# Altium footprint library chip.PcbLib: 31 footprints (part 2 of 2)
Each footprint in its own frame and in the unit in brackets; x right, y up, seen from the top. Pads: shape width x height; smd on the part's side, far side on the other; paste and mask are expansions set on the pad; w line width, h text height; cw(c..) or ccw(c..) is an arc to the next point about the centre after c.
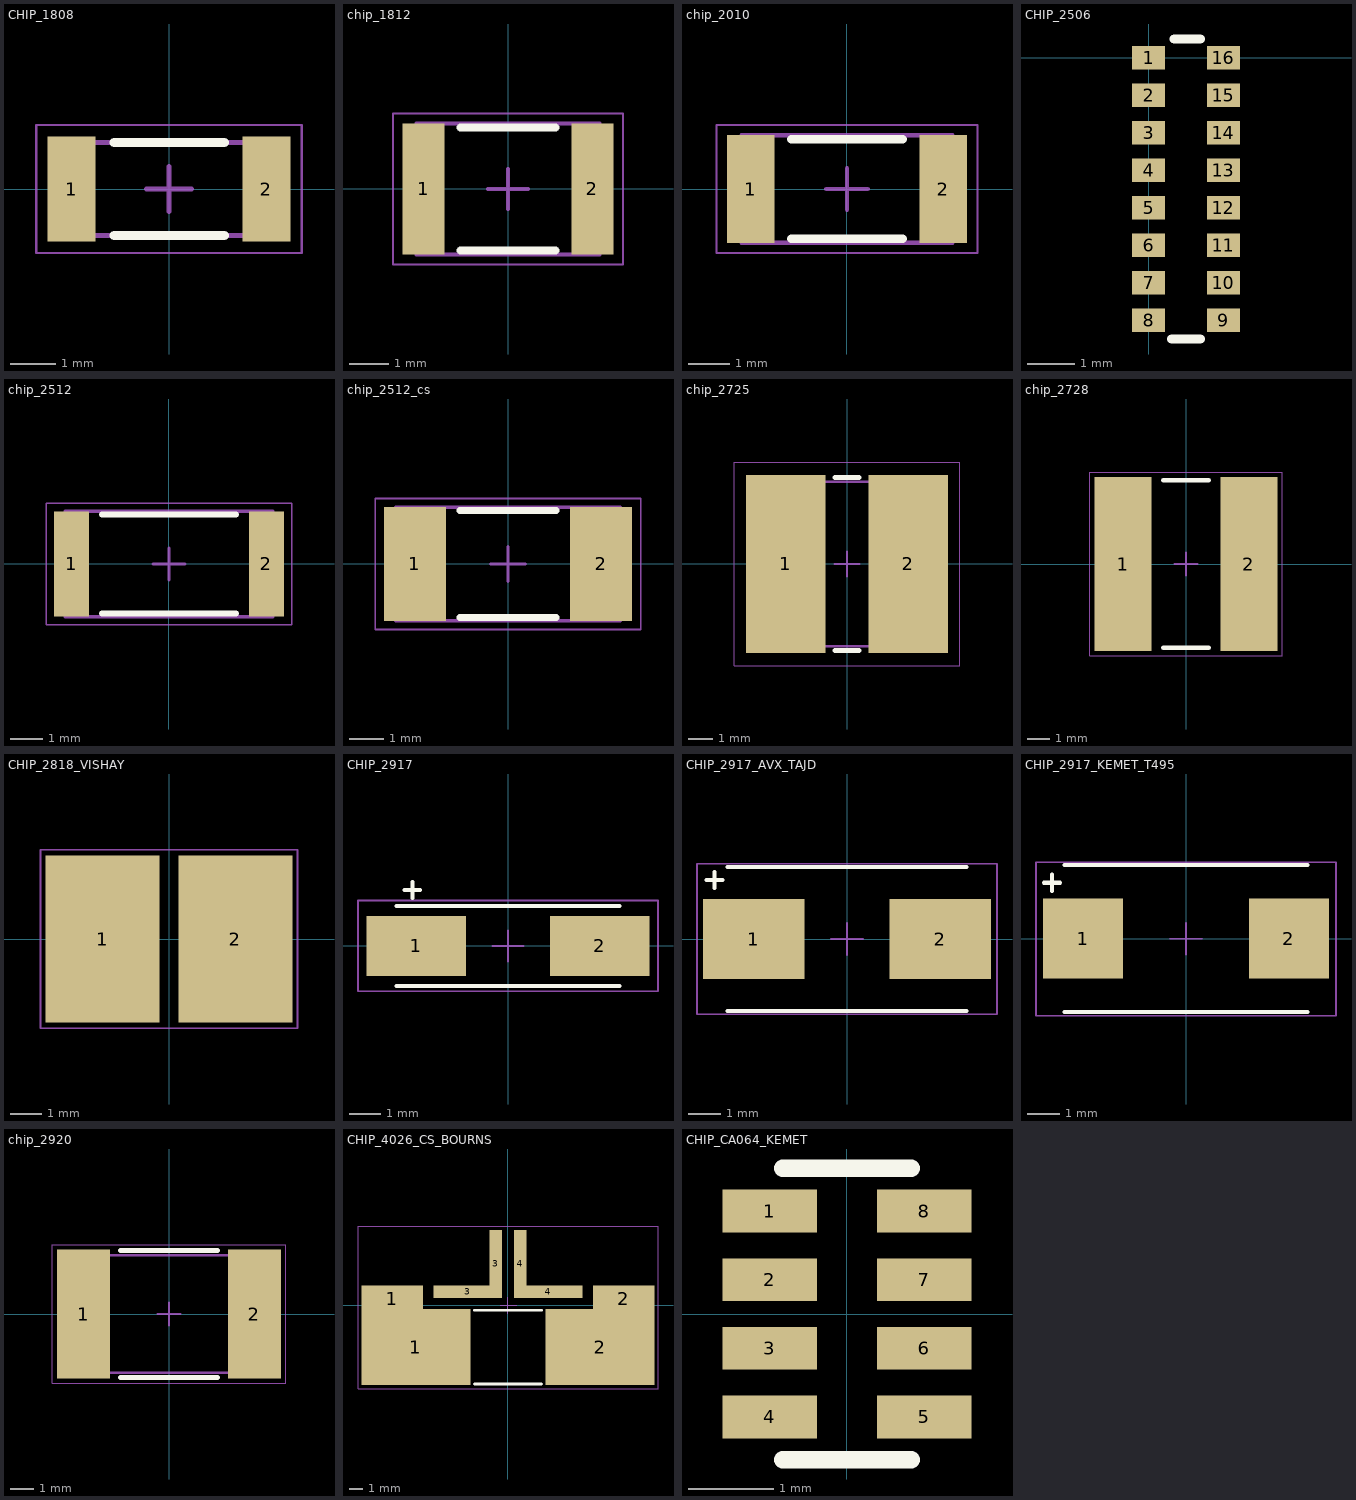
[diagram p1: the footprints below, top view; thin cyan lines are the x and y axes]

## CHIP_1808 [mm]
pads (2):
  rect 1.05x2.3 smd: 1(-2.125,0) 2(2.125,0)
Top Overlay:
  lines w0.2: -1.194,-1.016 1.206,-1.016 ; -1.194,1.016 1.206,1.016
Mechanical 13:
  lines w0.1: -2.3,-1.016 -2.3,1.016 2.3,1.016 2.3,-1.016 -2.3,-1.016
Mechanical 15:
  lines w0.05: -2.9,-1.397 -2.9,1.397 2.9,1.397 2.9,-1.397 -2.9,-1.397
  lines w0.1: -0.5,0 0.5,0 ; 0,-0.5 0,0.5
3D body: height 0.6, standoff 0, extent -1.8,-1.016 1.8,1.016
3D body: height 0.6, standoff 0, extent -2.3,-1.016 -1.8,1.016
3D body: height 0.6, standoff 0, extent 1.8,-1.016 2.3,1.016

## chip_1812 [mm]
height 0.6
pads (2):
  rect 1.05x3.3 smd: 1(-2.125,0) 2(2.125,0)
Top Overlay:
  lines w0.2: -1.2,-1.55 1.2,-1.55 ; -1.2,1.55 1.2,1.55
Mechanical 13:
  lines w0.1: -2.3,-1.65 2.3,-1.65 2.3,1.65 -2.3,1.65 -2.3,-1.65
Mechanical 15:
  lines w0.05: -2.9,-1.9 2.9,-1.9 2.9,1.9 -2.9,1.9 -2.9,-1.9
  lines w0.1: -0.5,0 0.5,0 ; 0,-0.5 0,0.5
3D body: height 0.6, standoff 0, extent 1.8,-1.65 2.3,1.65
3D body: height 0.6, standoff 0, extent -2.3,-1.65 -1.8,1.65
3D body: height 0.6, standoff 0, extent -1.8,-1.65 1.8,1.65

## chip_2010 [mm]
height 0.6
pads (2):
  rect 1.15x2.6 smd: 1(-2.325,0) 2(2.325,0)
Top Overlay:
  lines w0.2: -1.35,-1.2 1.35,-1.2 ; -1.35,1.2 1.35,1.2
Mechanical 13:
  lines w0.1: -2.55,-1.3 -2.55,1.3 2.55,1.3 2.55,-1.3 -2.55,-1.3
Mechanical 15:
  lines w0.05: -3.15,-1.55 -3.15,1.55 3.15,1.55 3.15,-1.55 -3.15,-1.55
  lines w0.1: -0.5,0 0.5,0 ; 0,-0.5 0,0.5
3D body: height 0.6, standoff 0, extent -1.95,-1.3 1.95,1.3
3D body: height 0.6, standoff 0, extent -2.55,-1.3 -1.95,1.3
3D body: height 0.6, standoff 0, extent 1.95,-1.3 2.55,1.3

## CHIP_2506 [mm]
pads (16):
  rect 0.7x0.5 smd mask+0.062: 1(0,0) 2(0,-0.8) 3(0,-1.6) 4(0,-2.4) 5(0,-3.2) 6(0,-4) 7(0,-4.8) 8(0,-5.6) 9(1.6,-5.6) 10(1.6,-4.8) 11(1.6,-4) 12(1.6,-3.2) 13(1.6,-2.4) 14(1.6,-1.6) 15(1.6,-0.8) 16(1.6,0)
Top Overlay:
  lines w0.2: 0.5,-6 1.1,-6 ; 0.55,0.4 1.1,0.4
3D body: height 0.53, standoff 0, extent 0,-6 1.6,0.4

## chip_2512 [mm]
height 0.6
pads (2):
  rect 1.1x3.3 smd: 1(-3.05,0) 2(3.05,0)
Top Overlay:
  lines w0.2: -2.1,-1.55 2.1,-1.55 ; -2.1,1.55 2.1,1.55
Mechanical 13:
  lines w0.1: -3.25,-1.65 3.25,-1.65 3.25,1.65 -3.25,1.65 -3.25,-1.65
Mechanical 15:
  lines w0.05: -3.85,-1.9 3.85,-1.9 3.85,1.9 -3.85,1.9 -3.85,-1.9
  lines w0.1: -0.5,0 0.5,0 ; 0,-0.5 0,0.5
3D body: height 0.6, standoff 0, extent 2.65,-1.65 3.25,1.65
3D body: height 0.6, standoff 0, extent -3.25,-1.65 -2.65,1.65
3D body: height 0.6, standoff 0, extent -2.65,-1.65 2.65,1.65

## chip_2512_cs [mm]
height 0.6
pads (2):
  rect 1.8x3.3 smd: 1(-2.7,0) 2(2.7,0)
Top Overlay:
  lines w0.2: -1.4,-1.55 1.4,-1.55 ; -1.4,1.55 1.4,1.55
Mechanical 13:
  lines w0.1: -3.25,-1.65 -3.25,1.65 3.25,1.65 3.25,-1.65 -3.25,-1.65
Mechanical 15:
  lines w0.05: -3.85,-1.9 -3.85,1.9 3.85,1.9 3.85,-1.9 -3.85,-1.9
  lines w0.1: -0.5,0 0.5,0 ; 0,-0.5 0,0.5
3D body: height 0.6, standoff 0, extent -2.65,-1.65 2.65,1.65
3D body: height 0.6, standoff 0, extent -3.25,-1.65 -2.65,1.65
3D body: height 0.6, standoff 0, extent 2.65,-1.65 3.25,1.65

## chip_2725 [mm]
height 1.09
pads (2):
  rect 3.25x7.25 smd: 1(-2.5,0) 2(2.5,0)
Top Overlay:
  lines w0.2: -0.5,-3.525 0.5,-3.525 ; -0.5,3.525 0.5,3.525
Mechanical 13:
  lines w0.1: -3.53,-3.35 -3.53,3.35 3.53,3.35 3.53,-3.35 -3.53,-3.35
Mechanical 15:
  lines w0.05: -4.6,-4.15 -4.6,4.15 4.6,4.15 4.6,-4.15 -4.6,-4.15
  lines w0.1: -0.5,0 0.5,0 ; 0,-0.5 0,0.5
3D body: height 1.09, standoff 0, extent -1.37,-3.35 1.37,3.35
3D body: height 1.09, standoff 0, extent -3.53,-3.35 -1.37,3.35
3D body: height 1.09, standoff 0, extent 1.37,-3.35 3.53,3.35

## chip_2728 [mm]
height 1.09
pads (2):
  rect 2.5x7.6 smd: 1(-2.75,0) 2(2.75,0)
Top Overlay:
  lines w0.2: -1,-3.65 1,-3.65 ; -1,3.65 1,3.65
Mechanical 15:
  lines w0.05: -4.2,-4 -4.2,4 4.2,4 4.2,-4 -4.2,-4
  lines w0.1: -0.5,0 0.5,0 ; 0,-0.5 0,0.5
3D body "Stackpole_CSSH2728.stp": height 0.98, standoff -0.01, extent -3.355,-3.59 3.355,3.6

## CHIP_2818_VISHAY [mm] "2818 Power resistor"
pads (2):
  rect 3.63x5.33 smd: 1(-2.12,0) 2(2.12,0)
Mechanical 15:
  lines w0.05: -4.1,-2.85 -4.1,2.85 4.1,2.85 4.1,-2.85 -4.1,-2.85
3D body: height 1.5, standoff 0, extent -3.55,-2.3 3.55,2.3

## CHIP_2917 [mil]
pads (2):
  rect 125x75 smd: 1(-115,0) 2(115,0)
Top Overlay:
  lines w5: -140,-50 140,-50 ; -140,50 140,50 ; -130,70 -110,70 ; -120,60 -120,80
Mechanical 15:
  lines w1.97: -19.68,0 19.69,0 ; 0,-19.69 0,19.68 ; -188,-57 -188,57 188,57 188,-57 -188,-57
3D body: height 118.11, standoff 0, extent -140,-47 140,47

## CHIP_2917_AVX_TAJD [mm] "2917 footprint for AVX TAJD"
pads (2):
  rect 3.175x2.5 smd: 1(-2.921,0) 2(2.921,0)
Top Overlay:
  lines w0.127: -4.404,1.85 -3.896,1.85 ; -4.15,1.596 -4.15,2.104 ; -3.75,-2.25 3.75,-2.25 ; -3.75,2.25 3.75,2.25
Mechanical 15:
  lines w0.05: -0.5,0 0.5,0 ; 0,-0.5 0,0.5 ; -4.699,-2.362 4.699,-2.362 4.699,2.362 -4.699,2.362 -4.699,-2.362
3D body "TAJD.step": height 3.15, standoff 0, extent -3.746,-2.248 3.746,2.248

## CHIP_2917_KEMET_T495 [mm] "2917 footprint for AVX TAJD"
pads (2):
  rect 2.5x2.5 smd: 1(-3.226,0) 2(3.226,0)
Top Overlay:
  lines w0.127: -4.454,1.75 -3.946,1.75 ; -4.2,1.496 -4.2,2.004 ; -3.8,-2.3 3.8,-2.3 ; -3.8,2.3 3.8,2.3
Mechanical 15:
  lines w0.05: -0.5,0 0.5,0 ; 0,-0.5 0,0.5 ; -4.699,-2.413 4.699,-2.413 4.699,2.388 -4.699,2.388 -4.699,-2.413
3D body "KEMET_T495.step": height 3.11, standoff 0, extent -3.8,-2.31 3.8,2.29

## chip_2920 [mm]
height 0.6
pads (2):
  rect 2.3x5.6 smd: 1(-3.7,0) 2(3.7,0)
Top Overlay:
  lines w0.2: -2.1,-2.75 2.1,-2.75 ; -2.1,2.75 2.1,2.75
Mechanical 13:
  lines w0.1: -4.5,-2.55 4.5,-2.55 4.5,2.55 -4.5,2.55 -4.5,-2.55
Mechanical 15:
  lines w0.05: -5.05,-3 5.05,-3 5.05,3 -5.05,3 -5.05,-3
  lines w0.1: -0.5,0 0.5,0 ; 0,-0.5 0,0.5
3D body: height 1.05, standoff 0, extent 3.55,-2.55 4.5,2.55
3D body: height 1.05, standoff 0, extent -4.5,-2.55 -3.55,2.55
3D body: height 1, standoff 0, extent -3.55,-2.5 3.55,2.5

## CHIP_4026_CS_BOURNS [mm]
pads (8):
  rect 4.5x1.9 smd: 1(-8.5,0.5) 2(8.5,0.5)
  rect 8x5.6 smd: 1(-6.75,-3.05) 2(6.75,-3.05)
  rect 5x0.9 smd: 3(-2.95,1) 4(2.95,1)
  rect 0.9x5 smd: 3(-0.9,3.05) 4(0.9,3.05)
Top Overlay:
  lines w0.2: -2.45,-5.75 2.45,-5.75 ; -2.45,-0.35 2.45,-0.35
Mechanical 15:
  lines w0.05: -0.575,0 0.625,0 ; 0,-0.6 0,0.6 ; -11,-6.1 11,-6.1 11,5.8 -11,5.8 -11,4.838 -11,2.913 -11,1.95 -11,-6.1

## CHIP_CA064_KEMET [mm]
pads (8):
  rect 1.1x0.5 smd mask+0.075: 1(-0.9,1.2) 2(-0.9,0.4) 3(-0.9,-0.4) 4(-0.9,-1.2) 5(0.9,-1.2) 6(0.9,-0.4) 7(0.9,0.4) 8(0.9,1.2)
Top Overlay:
  lines w0.2: -0.75,-1.7 0.75,-1.7 ; -0.75,1.7 0.75,1.7
3D body: height 1.02, standoff 0, extent 0,0 0,0
3D body: height 0.8, standoff 0, extent -0.8,-1.6 0.8,1.6
3D body: height 0.82, standoff 0, extent -0.85,-1.425 -0.55,-0.975
3D body: height 0.82, standoff 0, extent 0.55,-1.425 0.85,-0.975
3D body: height 0.82, standoff 0, extent 0.55,0.975 0.85,1.425
3D body: height 0.82, standoff 0, extent -0.85,-0.625 -0.55,-0.175
3D body: height 0.82, standoff 0, extent 0.55,-0.625 0.85,-0.175
3D body: height 0.82, standoff 0, extent 0.55,0.175 0.85,0.625
3D body: height 0.82, standoff 0, extent -0.85,0.975 -0.55,1.425
3D body: height 0.82, standoff 0, extent -0.85,0.175 -0.55,0.625